# Altium footprint library UAV.PcbLib: 28 footprints (part 1 of 2)
Each footprint in its own frame and in the unit in brackets; x right, y up, seen from the top. Pads: shape width x height; smd on the part's side, far side on the other; paste and mask are expansions set on the pad; w line width, h text height; cw(c..) or ccw(c..) is an arc to the next point about the centre after c.
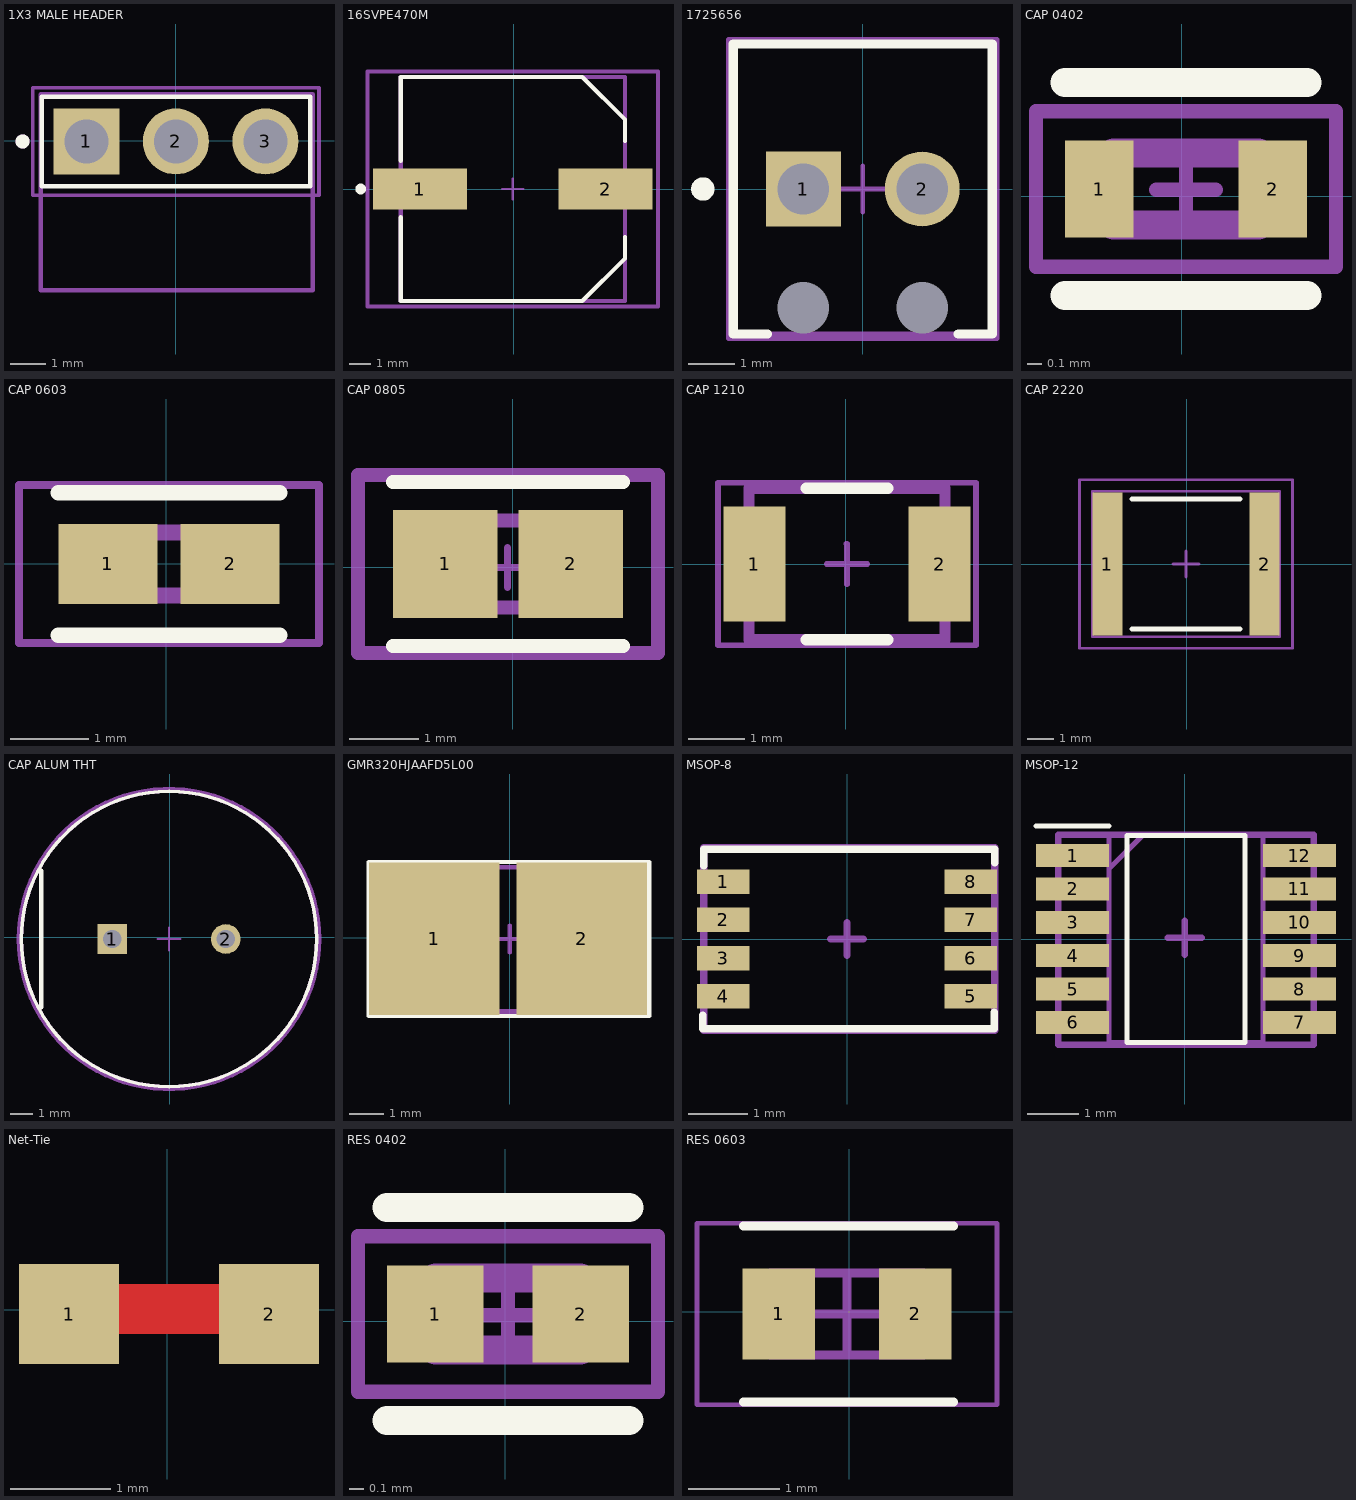
[diagram p0: the footprints below, top view; thin cyan lines are the x and y axes]

## 1X3 MALE HEADER [mm]
pads (3):
  rect 1.875x1.875 / inner round 1.875 / far side rect 1.875x1.875 hole 1.25: 1(-2.54,-0.025)
  round 1.875 hole 1.25: 2(0,-0.025) 3(2.54,-0.025)
Top Overlay:
  circle w0.2: c-4.35,-0.025 r0.1
  lines w0.127: -3.81,-1.295 3.81,-1.295 3.81,1.245 -3.81,1.245 -3.81,-1.295
Top 3D Body:
  circle w0.2: c-4.35,-0.025 r0.1
  lines w0.127: -3.835,-4.242 -3.835,1.321 -3.759,1.321 3.886,1.321 3.886,-4.242 -3.835,-4.242
Top Component Center:
  lines w0.1: -4.06,-1.545 -4.06,1.495 4.06,1.495 4.06,-1.545 -4.06,-1.545
  lines w0.127: -0.326,-0.03 0.334,-0.03 ; 0,-0.356 0,0.305
3D body "User Library-Header_Male_RA_Low_3Pin.STEP": height 1.32, standoff -8.81, extent -3.785,-4.194 3.835,1.321

## 16SVPE470M [mm] "16SVPE470M"
pads (2):
  rect 4.4x1.9 smd paste+0 mask+0: 1(-4.401,0) 2(4.299,0)
Top Overlay:
  circle w0.25: c-7.176,0 r0.125
  lines w0.2: -5.301,-1.325 -5.301,-5.25 3.199,-5.25 5.199,-3.25 5.199,-2.25 ; -5.301,1.325 -5.301,5.25 3.199,5.25 5.199,3.25 5.199,2.25
Top 3D Body:
  lines w0.2: -5.301,-5.25 -5.301,5.25 5.199,5.25 5.199,-5.25 -5.301,-5.25
Top Component Center:
  lines w0.1: -0.551,0 0.449,0 ; -0.051,-0.5 -0.051,0.5
  lines w0.2: -6.851,-5.5 -6.851,5.5 6.749,5.5 6.749,-5.5 -6.851,-5.5
Top Designator:
  text ".Designator" at -0.051,0.188 h1
3D body "Cap_Panasonic_35SVPK330M_eec.STEP": height 0.25, standoff 0, extent -6.851,-5.5 6.749,5.5

## 1725656 [mm] "1725656"
pads (4):
  rect 1.6x1.6 hole 1.1: 1(-1.27,0)
  round 1.6 hole 1.1: 2(1.27,0)
  round 0 hole 1.1 unplated: MH1(-1.27,-2.54) MH2(1.27,-2.54)
Top Overlay:
  circle w0.25: c-3.42,0 r0.125
  lines w0.2: -2.038,-3.1 -2.77,-3.1 -2.77,3.1 2.77,3.1 2.77,-3.1 2.038,-3.1
Top 3D Body:
  lines w0.1: -2.77,-3.1 -2.77,3.1 2.77,3.1 2.77,-3.1 -2.77,-3.1
Top Component Center:
  lines w0.1: -0.5,0 0.5,0 ; 0,-0.5 0,0.5 ; -2.87,-3.2 -2.87,3.2 2.87,3.2 2.87,-3.2 -2.87,-3.2
3D body "1725656.stp": height 9, standoff -3, extent -2.77,-3.1 2.77,3.1

## 04980900ZXT [mm]
3D body "User Library-Littlefuse 0154 Holder and Fuse.STEP": height 4.64, standoff 0.94, extent -4.639,-2.547 5.061,2.453
3D body "3D_model_0498000_Midi_2M5_0.63.stp": height -0.02, standoff -8.32, extent -20.081,7.645 20.919,19.645

## CAP 0402 [mm]
pads (2):
  rect 0.472x0.672 smd paste+0 mask+0: 1(-0.57,0.05) 2(0.63,0.05)
Top Overlay:
  lines w0.2: -0.806,-0.686 0.866,-0.686 ; -0.806,0.786 0.866,0.786
Top 3D Body:
  lines w0.2: -0.47,-0.2 0.53,-0.2 0.53,0.3 -0.47,0.3 -0.47,-0.2
Top Component Center:
  lines w0.1: -0.175,0.045 0.235,0.045 ; 0.03,-0.16 0.03,0.25 ; -1.006,-0.486 -1.006,0.586 1.066,0.586 1.066,-0.486 -1.006,-0.486
Top Designator:
  text ".Designator" at 0.03,0.238 h1
3D body "Cap_TDK_CGA2B1X7R1A154M050BC_eec.STEP": height 0.25, standoff 0, extent -1.006,-0.486 1.066,0.586

## CAP 0603 [mm]
pads (2):
  rect 1.258x1.012 smd paste+0 mask+0: 1(-0.742,-0.001) 2(0.813,-0.001)
Top Overlay:
  lines w0.2: -1.371,-0.907 1.441,-0.907 ; -1.371,0.905 1.441,0.905
Top 3D Body:
  lines w0.2: -0.765,-0.401 -0.765,0.399 0.835,0.399 0.835,-0.401 -0.765,-0.401
Top Component Center:
  lines w0.1: -1.871,-1.007 1.941,-1.007 1.941,1.005 -1.871,1.005 -1.871,-1.007
Top Designator:
  text ".Designator" at -0.105,-0.273 h1
3D body "Cap_Taiyo_Yuden_LMK107SD223KA-T_eec.STEP": height 0.25, standoff 0, extent -1.871,-1.007 1.941,1.005

## CAP 0805 [mm]
pads (2):
  rect 1.505x1.556 smd paste+0 mask+0: 1(-0.966,0.045) 2(0.835,0.045)
Top Overlay:
  lines w0.2: -1.719,-1.134 1.588,-1.134 ; -1.719,1.223 1.588,1.223
Top 3D Body:
  lines w0.2: -1.065,-0.58 0.935,-0.58 0.935,0.67 -1.065,0.67 -1.065,-0.58
Top Component Center:
  lines w0.1: -0.365,-0.005 0.215,-0.005 ; -0.075,-0.295 -0.075,0.285
  lines w0.2: -2.219,-1.234 -2.219,1.323 2.088,1.323 2.088,-1.234 -2.219,-1.234
Top Designator:
  text ".Designator" at -0.065,0.233 h1
3D body "Cap_KEMET_C0805C472J3HAC_eec.STEP": height 0.25, standoff 0, extent -2.218,-1.234 2.088,1.323

## CAP 1210 [mm]
pads (2):
  rect 1.1x2.05 smd paste+0 mask+0: 1(-1.63,0) 2(1.67,0)
Top Overlay:
  lines w0.2: -0.705,-1.35 0.745,-1.35 ; -0.705,1.35 0.745,1.35
Top 3D Body:
  lines w0.2: -1.73,-1.35 1.77,-1.35 1.77,1.35 -1.73,1.35 -1.73,-1.35
Top Component Center:
  lines w0.1: -0.34,0 0.38,0 ; 0.01,0.36 0.02,0.36 0.02,-0.36 ; -2.28,-1.45 -2.28,1.45 2.32,1.45 2.32,-1.45 -2.28,-1.45
Top Designator:
  text ".Designator" at 0.02,0.188 h1
3D body "Cap_Murata_GRM32EC70G107ME15K_eec.STEP": height 0.25, standoff 0, extent -2.28,-1.45 2.32,1.45

## CAP 2220 [mm]
pads (2):
  rect 1.153x5.503 smd paste+0 mask+0: 1(-3.055,0.01) 2(2.995,0.01)
Top Overlay:
  lines w0.2: -2.103,-2.49 2.043,-2.49 ; -2.103,2.51 2.043,2.51
Top 3D Body:
  lines w0.1: -3.63,-2.79 3.57,-2.79 3.57,2.81 -3.63,2.81 -3.63,-2.79
Top Component Center:
  lines w0.1: -0.53,0.01 0.47,0.01 ; -0.03,-0.49 -0.03,0.51 ; -4.132,-3.242 -4.132,3.262 4.072,3.262 4.072,-3.242 -4.132,-3.242
Top Designator:
  text ".Designator" at -0.03,0.198 h1
3D body "Cap_TDK_C5750X7R1C476M230KB_eec.STEP": height 0.25, standoff 0, extent -4.132,-3.242 4.072,3.262

## CAP ALUM THT [mm]
pads (2):
  rect 1.3x1.3 hole 0.8 paste-2539.97 mask+0: 1(-2.525,-0.076)
  round 1.3 hole 0.8 paste-2539.97 mask+0: 2(2.475,-0.076)
Top Overlay:
  circle w0.15: c-0.025,-0.076 r6.5
  lines w0.2: -5.65,-3.076 -5.65,2.924
Top 3D Body:
  circle w0.15: c-0.025,-0.076 r6.5
Top Component Center:
  lines w0.1: -0.525,-0.076 0.475,-0.076 ; -0.025,-0.576 -0.025,0.424
  lines w0.2: -6.625,-0.076 ccw(c-0.025,-0.076) 6.575,-0.076 ccw(c-0.025,-0.076) -6.625,-0.076
Top Designator:
  text ".Designator" at -0.025,0.112 h1
3D body "Cap_Panasonic_ECA1CHG222E_eec.STEP": height 0.25, standoff 0, extent -6.625,-6.676 6.575,6.524

## GMR320HJAAFD5L00 [mm] "GMR320HJAAFD5L00"
pads (2):
  rect 3.8x4.45 smd: 1(-2.201,-0.025) 2(2.099,-0.025)
Top Overlay:
  lines w0.127: -4.115,2.21 -4.115,-2.286 4.064,-2.286 4.064,2.21 -4.089,2.21
Top 3D Body:
  lines w0.127: -3.531,2.057 3.556,2.057 3.556,-2.21 -3.658,-2.21 -3.658,2.057 -2.921,2.057
Top Component Center:
  lines w0.1: -3.601,-2.125 3.499,-2.125 3.499,2.075 -3.601,2.075 -3.601,-2.125
  lines w0.127: -0.394,-0.038 0.394,-0.038 ; 0,-0.432 0,0.356
Top Designator:
  text ".Designator" at 0.61,-0.686 h1.52
3D body "GMR320HJAAFD5L00.stp": height 0.4, standoff 0, extent -3.575,-2.151 3.525,2.049

## MSOP-8 [mm] "LTC4359IMS8#PBF"
pads (8):
  rect 0.889x0.42 smd paste-2539.97 mask+0.05: 1(-2.105,0.975) 2(-2.105,0.325) 3(-2.105,-0.325) 4(-2.105,-0.975) 5(2.105,-0.975) 6(2.105,-0.325) 7(2.105,0.325) 8(2.105,0.975)
Top Overlay:
  lines w0.127: -2.451,-1.295 -2.451,-1.524 2.502,-1.524 2.502,-1.245 ; -2.438,1.245 -2.438,1.524 2.515,1.524 2.515,1.295
Top 3D Body:
  lines w0.127: -2.438,1.524 -2.438,-1.549 2.515,-1.549 2.515,1.524 -2.413,1.524
Top Component Center:
  lines w0.127: -0.279,0 0.279,0 ; 0,-0.279 0,0.279 ; -2.438,-1.524 -2.438,1.549 2.515,1.549 2.515,-1.524 -2.438,-1.524
Top Designator:
  text ".Designator" at -0.635,-0.686 h1.52
3D body "msop-8.SLDPRT": height 1.15, standoff 0, extent -2.425,-1.475 2.475,1.525

## MSOP-12 [mm] "LT4363IMS-2#PBF"
pads (12):
  rect 1.425x0.45 smd: 1(-2.187,1.625) 2(-2.187,0.975) 3(-2.187,0.325) 4(-2.187,-0.325) 5(-2.187,-0.975) 6(-2.187,-1.625) 7(2.237,-1.625) 8(2.237,-0.975) 9(2.237,-0.325) 10(2.237,0.325) 11(2.237,0.975) 12(2.237,1.625)
Top Overlay:
  lines w0.1: -2.9,2.2 -1.475,2.2 ; -1.125,-2.02 -1.125,2.02 1.175,2.02 1.175,-2.02 -1.125,-2.02
Top 3D Body:
  lines w0.127: -2.464,-2.057 -2.464,2.032 2.515,2.032 2.515,-2.057 -2.464,-2.057
Top Component Center:
  lines w0.1: -1.475,1.37 -0.825,2.02 ; -1.475,-2.02 -1.475,2.02 1.525,2.02 1.525,-2.02 -1.475,-2.02
  lines w0.127: -0.33,0.025 0.33,0.025 ; 0,-0.305 0,0.356
Top Designator:
  text ".Designator" at -0.508,-0.356 h1.52
3D body "LT4363IMS-2#PBF.stp": height 0.93, standoff -0.03, extent -2.425,-2.02 2.475,2.02

## Net-Tie [mm]
pads (2):
  rect 1x1 smd mask+0.05: 1(-0.982,-0.042) 2(1.018,-0.042)
Top Layer:
  rectangle: -0.782,-0.242 0.818,0.258

## RES 0402 [mm]
pads (2):
  rect 0.668x0.672 smd paste+0 mask+0: 1(-0.482,0.05) 2(0.522,0.05)
Top Overlay:
  lines w0.2: -0.816,-0.686 0.856,-0.686 ; -0.816,0.786 0.856,0.786
Top 3D Body:
  lines w0.2: -0.48,-0.2 -0.48,0.3 0.52,0.3 0.52,-0.2 -0.48,-0.2
Top Component Center:
  lines w0.1: -0.16,0.04 0.2,0.04 ; 0.02,-0.14 0.02,0.22 ; -1.016,-0.486 1.056,-0.486 1.056,0.586 -1.016,0.586 -1.016,-0.486
Top Designator:
  text ".Designator" at 0.02,0.238 h1
3D body "Res_Vishay_CRCW04021K00FKED_eec.STEP": height 0.25, standoff 0, extent -1.016,-0.486 1.056,0.586

## RES 0603 [mm]
pads (2):
  rect 0.8x1 smd: 1(-0.775,-0.025) 2(0.725,-0.025)
Top Overlay:
  lines w0.1: -1.165,-0.995 1.145,-0.995 ; -1.165,0.945 1.145,0.945
Top 3D Body:
  lines w0.1: -0.875,-0.475 0.825,-0.475 0.825,0.425 -0.875,0.425 -0.875,-0.475
Top Component Center:
  lines w0.05: -1.675,-1.025 -1.675,0.975 1.625,0.975 1.625,-1.025 -1.675,-1.025
  lines w0.1: -0.475,-0.025 0.425,-0.025 ; -0.025,-0.475 -0.025,0.425
Top Designator:
  text ".Designator" at -1.231,-0.744 h1.52
3D body: height 0.55, standoff 0, extent -0.625,-0.475 0.575,0.425
3D body: height 0.55, standoff 0, extent -0.875,-0.475 -0.625,0.425
3D body: height 0.55, standoff 0, extent 0.575,-0.475 0.825,0.425